# EAGLE library part MINI_USB2 (library Itead-misc)
SOC012
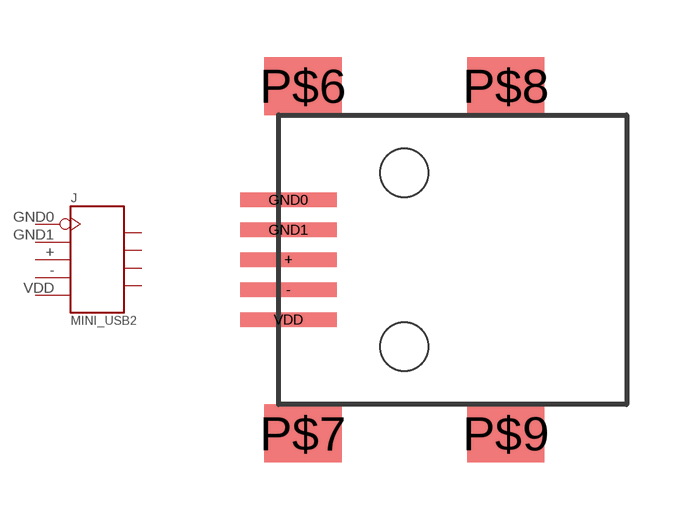
[diagram p21: symbol with the pads of MINI_USB2; footprint MINI_USB2]

Designator prefix J

## MINI_USB2  [MINI_USB2]
+  +
-  -
GND0  GND0
GND1  GND1
P$6  P$6
P$7  P$7
P$8  P$8
P$9  P$9
VDD  VDD

## Footprint MINI_USB2 (pad centres in mm)
smd 2.54 x 0.381: + -2.286,0; - -2.286,-0.787; GND0 -2.286,1.575; GND1 -2.286,0.787; VDD -2.286,-1.575
smd 2.032 x 1.524: P$6 -1.905,4.572; P$7 -1.905,-4.572; P$8 3.429,4.572; P$9 3.429,-4.572
hole 1.27 at 0.762,2.286
hole 1.27 at 0.762,-2.286